# EAGLE library part LTC6102 (library myLib)
LTC6102 Precision Zero Drift Current Sense Amplifier
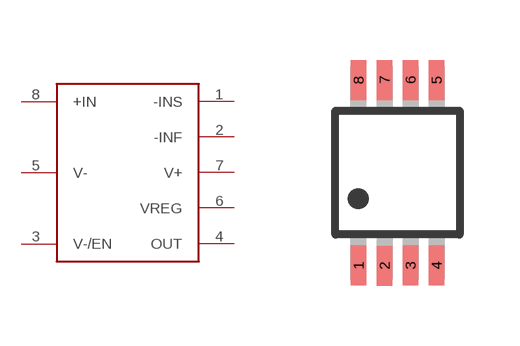
[diagram p25: symbol with the pads of MSOP-8; footprint MSOP-8]

Designator prefix -

## LTC6102  [MSOP-8]
1  -INS
2  -INF
3  V-/EN
4  OUT
5  V-
6  VREG
7  V+
8  +IN

## Footprint MSOP-8 (pad centres in mm)
smd 0.38 x 1: 1 -0.975,-2.32; 2 -0.325,-2.33; 3 0.325,-2.32; 4 0.975,-2.32; 5 0.975,2.32; 6 0.325,2.32; 7 -0.325,2.32; 8 -0.975,2.32